# Altium footprint library con-molex-micro-fit-3_0.PCBLIB: 194 footprints (part 6 of 13)
Each footprint in its own frame and in the unit in brackets; x right, y up, seen from the top. Pads: shape width x height; smd on the part's side, far side on the other; paste and mask are expansions set on the pad; w line width, h text height; cw(c..) or ccw(c..) is an arc to the next point about the centre after c.
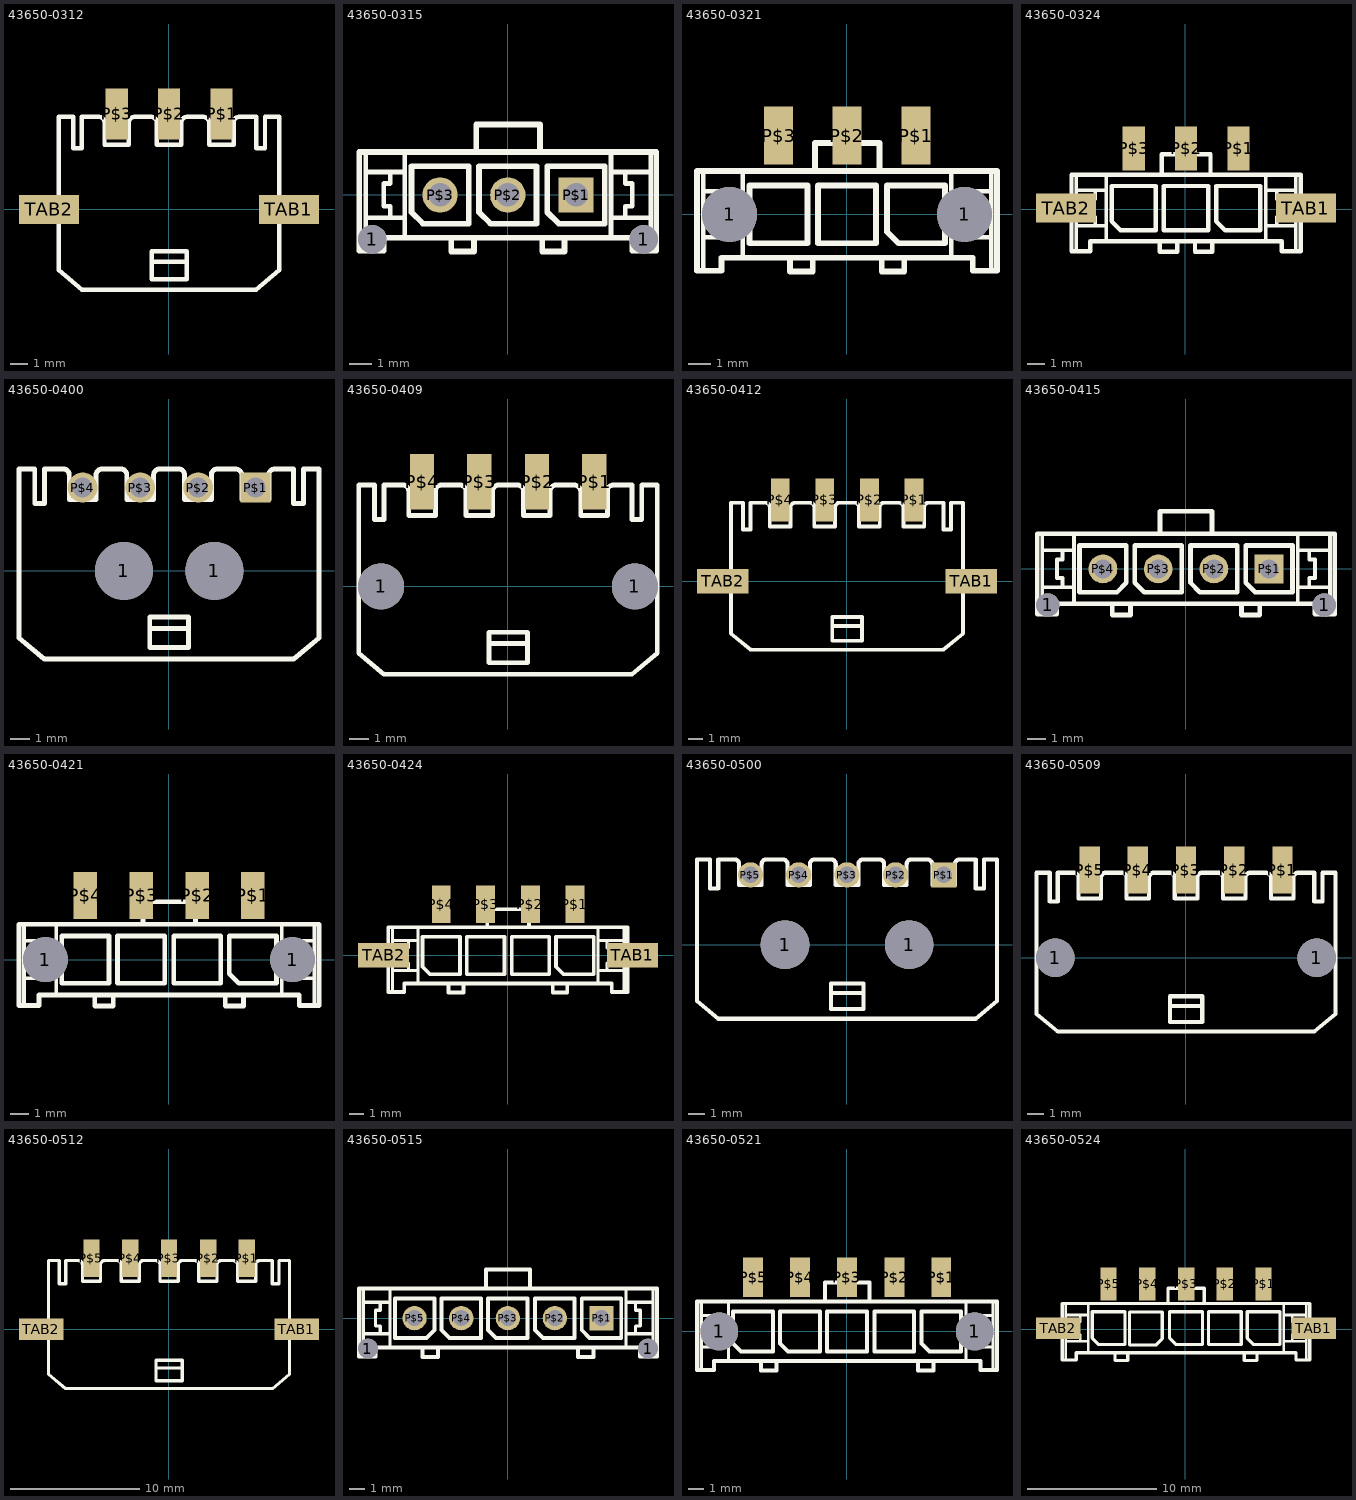
[diagram p5: the footprints below, top view; thin cyan lines are the x and y axes]

## 43650-0312 [mil]
pads (5):
  rect 50x115 smd: P$1(119,216) P$2(0,216) P$3(-118.11,216)
  rect 136x65 smd: TAB1(271,0) TAB2(-270.87,0)
Top Overlay:
  lines w10: -39.37,-118.11 40,-118.11 ; -39.37,-118.11 -39.37,-94.49 40,-94.49 40,-118.11 ; -39.37,-118.11 -39.37,-157.48 40,-157.48 40,-118.11 ; -248.82,-137.8 -196.85,-181.1 197,-181.1 249,-137.8 249,209 217,209 217,138 197,138 197,209 158,209 ccw(c158,197) 146,197 146,146 91,146 91,197 ccw(c77,195) 79,209 40,209 ccw(c40,197) 28,197 28,146 -27.56,146 -27.56,197 ccw(c-39.46,197.09) -39.37,209 -78.74,209 ccw(c-78.65,197.09) -90.55,197 -90.55,146 -145.67,146 -145.67,197 ccw(c-157.57,197.09) -157.48,209 -196.85,209 -196.85,138 -216.54,138 -216.54,209 -248.82,209 -248.82,-137.8

## 43650-0315 [mil]
pads (5):
  round 50 hole 50: 1(-236.22,-77.17) 1(237,-77.17)
  rect 61.5x61.5 hole 41: P$1(119,0)
  round 61.5 hole 41: P$2(0,0) P$3(-118.11,0)
Top Overlay:
  lines w8: -248.03,-97.24 -248.03,-39.37 ; -248.03,75 -248.03,40 ; -179.92,-74.8 -179.92,-39.37 ; -179.92,75 -179.92,40 ; 180,-74.8 180,-39.37 ; 180,75 180,40 ; 249,-97.24 249,-39.37 ; 249,75 249,40 ; -248.03,-39.37 -248.03,40 ; -248.03,-39.37 -204.72,-39.37 ; -248.03,40 -204.72,40 ; -204.72,-39.37 -179.92,-39.37 ; -204.72,-39.37 -204.72,-19.68 -216.54,-19.68 -216.54,20 -204.72,20 -204.72,40 ; -204.72,40 -179.92,40 ; -179.92,-39.37 -179.92,40 ; 180,-39.37 180,40 ; 180,-39.37 205,-39.37 ; 180,40 205,40 ; 205,-39.37 249,-39.37 ; 205,-39.37 205,-19.68 217,-19.68 217,20 205,20 205,40 ; 205,40 249,40 ; 249,-39.37 249,40
  lines w10: -98.43,-74.8 -59.06,-74.8 ; -98.43,-74.8 -179.92,-74.8 -216.54,-74.8 -216.54,-97.24 -248.03,-97.24 -258.86,-97.24 -258.86,75 -248.03,75 -179.92,75 -55.12,75 ; -98.43,-74.8 -98.43,-98.43 -59.06,-98.43 -59.06,-74.8 ; -59.06,-74.8 60,-74.8 ; -55.12,75 56,75 ; -55.12,75 -55.12,123 56,123 56,75 ; 56,75 180,75 249,75 259,75 259,-97.24 249,-97.24 217,-97.24 217,-74.8 180,-74.8 99,-74.8 ; 60,-74.8 99,-74.8 ; 60,-74.8 60,-98.43 99,-98.43 99,-74.8 ; -168.11,-30 -168.11,50 -68.11,50 -68.11,-50 -148.11,-50 -168.11,-30 ; -50,-30 -50,50 50,50 50,-50 -30,-50 -50,-30 ; 69,-30 69,50 169,50 169,-50 89,-50 69,-30

## 43650-0321 [mil]
pads (5):
  round 95 hole 95: 1(-202.76,0) 1(203,0)
  rect 50x100 smd: P$1(119,136) P$2(0,136) P$3(-118.11,136)
Top Overlay:
  lines w8: -248.03,-97.24 -248.03,-39.37 ; -248.03,75 -248.03,40 ; -179.92,-74.8 -179.92,-39.37 ; -179.92,75 -179.92,40 ; 180,-74.8 180,-39.37 ; 180,75 180,40 ; 249,-97.24 249,-39.37 ; 249,75 249,40 ; -248.03,-39.37 -248.03,40 ; -248.03,-39.37 -204.72,-39.37 ; -248.03,40 -204.72,40 ; -204.72,-39.37 -179.92,-39.37 ; -204.72,-39.37 -204.72,-19.68 -216.54,-19.68 -216.54,20 -204.72,20 -204.72,40 ; -204.72,40 -179.92,40 ; -179.92,-39.37 -179.92,40 ; 180,-39.37 180,40 ; 180,-39.37 205,-39.37 ; 180,40 205,40 ; 205,-39.37 249,-39.37 ; 205,-39.37 205,-19.68 217,-19.68 217,20 205,20 205,40 ; 205,40 249,40 ; 249,-39.37 249,40
  lines w10: -98.43,-74.8 -59.06,-74.8 ; -98.43,-74.8 -179.92,-74.8 -216.54,-74.8 -216.54,-97.24 -248.03,-97.24 -258.86,-97.24 -258.86,75 -248.03,75 -179.92,75 -55.12,75 ; -98.43,-74.8 -98.43,-98.43 -59.06,-98.43 -59.06,-74.8 ; -59.06,-74.8 60,-74.8 ; -55.12,75 56,75 ; -55.12,75 -55.12,123 56,123 56,75 ; 56,75 180,75 249,75 259,75 259,-97.24 249,-97.24 217,-97.24 217,-74.8 180,-74.8 99,-74.8 ; 60,-74.8 99,-74.8 ; 60,-74.8 60,-98.43 99,-98.43 99,-74.8 ; -168.11,-50 -68.11,-50 -68.11,50 -168.11,50 -168.11,-50 ; -50,-50 50,-50 50,50 -50,50 -50,-50 ; 69,-30 69,50 169,50 169,-50 89,-50 69,-30

## 43650-0324 [mil]
pads (5):
  rect 50x100 smd: P$1(120,138) P$2(2,138) P$3(-116.68,138)
  rect 136x65 smd: TAB1(273,3) TAB2(-269.83,3)
Top Overlay:
  lines w8: -246.6,-94.37 -246.6,-36.5 ; -246.6,78 -246.6,43 ; -178.49,-71.93 -178.49,-36.5 ; -178.49,78 -178.49,43 ; 182,-71.93 182,-36.5 ; 182,78 182,43 ; 250,-94.37 250,-36.5 ; 250,78 250,43 ; -246.6,-36.5 -246.6,43 ; -246.6,-36.5 -203.29,-36.5 ; -246.6,43 -203.29,43 ; -203.29,-36.5 -178.49,-36.5 ; -203.29,-36.5 -203.29,-16.81 -215.1,-16.81 -215.1,23 -203.29,23 -203.29,43 ; -203.29,43 -178.49,43 ; -178.49,-36.5 -178.49,43 ; 182,-36.5 182,43 ; 182,-36.5 207,-36.5 ; 182,43 207,43 ; 207,-36.5 250,-36.5 ; 207,-36.5 207,-16.81 218,-16.81 218,23 207,23 207,43 ; 207,43 250,43 ; 250,-36.5 250,43
  lines w10: -57.62,-71.93 -18.25,-71.93 ; -57.62,-71.93 -178.49,-71.93 -215.1,-71.93 -215.1,-94.37 -246.6,-94.37 -257.43,-94.37 -257.43,78 -246.6,78 -178.49,78 -53.69,78 ; -57.62,-71.93 -57.62,-95.55 -18.25,-95.55 -18.25,-71.93 ; -53.69,78 57,78 ; -53.69,78 -53.69,125 57,125 57,78 ; -18.25,-71.93 22,-71.93 ; 22,-71.93 61,-71.93 ; 22,-71.93 22,-95.55 61,-95.55 61,-71.93 ; 57,78 182,78 250,78 261,78 261,-94.37 250,-94.37 218,-94.37 218,-71.93 182,-71.93 61,-71.93 ; -166.68,-27.13 -166.68,53 -66.68,53 -66.68,-47.13 -146.68,-47.13 -166.68,-27.13 ; -48.57,-47.13 52,-47.13 52,53 -48.57,53 -48.57,-47.13 ; 70,-27.13 70,53 170,53 170,-47.13 90,-47.13 70,-27.13

## 43650-0400 [mil]
pads (6):
  round 119 hole 119: 1(-92.52,0) 1(93,0)
  rect 61.5x61.5 hole 41: P$1(178,171)
  round 61.5 hole 41: P$2(60,171) P$3(-59.06,171) P$4(-177.17,171)
Top Overlay:
  lines w10: -39.37,-118.11 -39.37,-157.48 40,-157.48 40,-118.11 ; -39.37,-118.11 -39.37,-94.49 40,-94.49 40,-118.11 ; -39.37,-118.11 40,-118.11 ; -307.87,-137.8 -307.87,209 -275.59,209 -275.59,138 -255.91,138 -255.91,209 -216.54,209 cw(c-216.63,197.09) -204.72,197 -204.72,146 -149.61,146 -149.61,197 cw(c-137.7,197.09) -137.8,209 -98.43,209 cw(c-98.52,197.09) -86.61,197 -86.61,146 -31.5,146 -31.5,197 cw(c-19.59,197.09) -19.69,209 20,209 cw(c20,197) 32,197 32,146 87,146 87,197 cw(c99,197) 99,209 138,209 cw(c136,195) 150,197 150,146 205,146 205,197 cw(c217,197) 217,209 256,209 256,138 276,138 276,209 308,209 308,-137.8 256,-181.1 -255.91,-181.1 -307.87,-137.8

## 43650-0409 [mil]
pads (6):
  round 95 hole 95: 1(-261.81,0) 1(262,0)
  rect 50x115 smd: P$1(178,216) P$2(60,216) P$3(-59.06,216) P$4(-177.17,216)
Top Overlay:
  lines w10: -39.37,-118.11 -39.37,-157.48 40,-157.48 40,-118.11 ; -39.37,-118.11 -39.37,-94.49 40,-94.49 40,-118.11 ; -39.37,-118.11 40,-118.11 ; -307.87,-137.8 -307.87,209 -275.59,209 -275.59,138 -255.91,138 -255.91,209 -216.54,209 cw(c-216.63,197.09) -204.72,197 -204.72,146 -149.61,146 -149.61,197 cw(c-137.7,197.09) -137.8,209 -98.43,209 cw(c-98.52,197.09) -86.61,197 -86.61,146 -31.5,146 -31.5,197 cw(c-19.59,197.09) -19.69,209 20,209 cw(c20,197) 32,197 32,146 87,146 87,197 cw(c99,197) 99,209 138,209 cw(c136,195) 150,197 150,146 205,146 205,197 cw(c217,197) 217,209 256,209 256,138 276,138 276,209 308,209 308,-137.8 256,-181.1 -255.91,-181.1 -307.87,-137.8

## 43650-0412 [mil]
pads (6):
  rect 50x115 smd: P$1(178,216) P$2(60,216) P$3(-59.06,216) P$4(-177.17,216)
  rect 136x65 smd: TAB1(330,0) TAB2(-329.92,0)
Top Overlay:
  lines w10: -39.37,-118.11 -39.37,-157.48 40,-157.48 40,-118.11 ; -39.37,-118.11 -39.37,-94.49 40,-94.49 40,-118.11 ; -39.37,-118.11 40,-118.11 ; -307.87,-137.8 -307.87,209 -275.59,209 -275.59,138 -255.91,138 -255.91,209 -216.54,209 cw(c-216.63,197.09) -204.72,197 -204.72,146 -149.61,146 -149.61,197 cw(c-137.7,197.09) -137.8,209 -98.43,209 cw(c-98.52,197.09) -86.61,197 -86.61,146 -31.5,146 -31.5,197 cw(c-19.59,197.09) -19.69,209 20,209 cw(c20,197) 32,197 32,146 87,146 87,197 cw(c99,197) 99,209 138,209 cw(c136,195) 150,197 150,146 205,146 205,197 cw(c217,197) 217,209 256,209 256,138 276,138 276,209 308,209 308,-137.8 256,-181.1 -255.91,-181.1 -307.87,-137.8

## 43650-0415 [mil]
pads (6):
  round 50 hole 50: 1(-295.28,-77.17) 1(296,-77.17)
  rect 61.5x61.5 hole 41: P$1(178,0)
  round 61.5 hole 41: P$2(60,0) P$3(-59.06,0) P$4(-177.17,0)
Top Overlay:
  lines w8: -307.09,-97.24 -307.09,-39.37 ; -307.09,75 -307.09,40 ; -238.98,-74.8 -238.98,-39.37 ; -238.98,75 -238.98,40 ; 239,-74.8 239,-39.37 ; 239,75 239,40 ; 308,-97.24 308,-39.37 ; 308,75 308,40 ; -307.09,-39.37 -307.09,40 ; -307.09,-39.37 -263.78,-39.37 ; -307.09,40 -263.78,40 ; -263.78,-39.37 -238.98,-39.37 ; -263.78,-39.37 -263.78,-19.68 -275.59,-19.68 -275.59,20 -263.78,20 -263.78,40 ; -263.78,40 -238.98,40 ; -238.98,-39.37 -238.98,40 ; 239,-39.37 239,40 ; 239,-39.37 264,-39.37 ; 239,40 264,40 ; 264,-39.37 308,-39.37 ; 264,-39.37 264,-19.68 276,-19.68 276,20 264,20 264,40 ; 264,40 308,40 ; 308,-39.37 308,40
  lines w10: -157.48,-74.8 -118.11,-74.8 ; -157.48,-74.8 -238.98,-74.8 -275.59,-74.8 -275.59,-97.24 -307.09,-97.24 -317.91,-97.24 -317.91,75 -307.09,75 -238.98,75 -55.12,75 ; -157.48,-74.8 -157.48,-98.43 -118.11,-98.43 -118.11,-74.8 ; -118.11,-74.8 119,-74.8 ; -55.12,75 56,75 ; -55.12,75 -55.12,123 56,123 56,75 ; 56,75 239,75 308,75 318,75 318,-97.24 308,-97.24 276,-97.24 276,-74.8 239,-74.8 158,-74.8 ; 119,-74.8 158,-74.8 ; 119,-74.8 119,-98.43 158,-98.43 158,-74.8 ; -227.17,-50 -227.17,50 -127.17,50 -127.17,-30 -147.17,-50 -227.17,-50 ; -109.06,-30 -109.06,50 -9.06,50 -9.06,-50 -89.06,-50 -109.06,-30 ; 10,-30 10,50 110,50 110,-50 30,-50 10,-30 ; 128,-30 128,50 228,50 228,-50 148,-50 128,-30

## 43650-0421 [mil]
pads (6):
  round 95 hole 95: 1(-261.81,0) 1(262,0)
  rect 50x100 smd: P$1(178,136) P$2(60,136) P$3(-59.06,136) P$4(-177.17,136)
Top Overlay:
  lines w8: -307.09,-97.24 -307.09,-39.37 ; -307.09,75 -307.09,40 ; -238.98,-74.8 -238.98,-39.37 ; -238.98,75 -238.98,40 ; 239,-74.8 239,-39.37 ; 239,75 239,40 ; 308,-97.24 308,-39.37 ; 308,75 308,40 ; -307.09,-39.37 -307.09,40 ; -307.09,-39.37 -263.78,-39.37 ; -307.09,40 -263.78,40 ; -263.78,-39.37 -238.98,-39.37 ; -263.78,-39.37 -263.78,-19.68 -275.59,-19.68 -275.59,20 -263.78,20 -263.78,40 ; -263.78,40 -238.98,40 ; -238.98,-39.37 -238.98,40 ; 239,-39.37 239,40 ; 239,-39.37 264,-39.37 ; 239,40 264,40 ; 264,-39.37 308,-39.37 ; 264,-39.37 264,-19.68 276,-19.68 276,20 264,20 264,40 ; 264,40 308,40 ; 308,-39.37 308,40
  lines w10: -157.48,-74.8 -118.11,-74.8 ; -157.48,-74.8 -238.98,-74.8 -275.59,-74.8 -275.59,-97.24 -307.09,-97.24 -317.91,-97.24 -317.91,75 -307.09,75 -238.98,75 -55.12,75 ; -157.48,-74.8 -157.48,-98.43 -118.11,-98.43 -118.11,-74.8 ; -118.11,-74.8 119,-74.8 ; -55.12,75 56,75 ; -55.12,75 -55.12,123 56,123 56,75 ; 56,75 239,75 308,75 318,75 318,-97.24 308,-97.24 276,-97.24 276,-74.8 239,-74.8 158,-74.8 ; 119,-74.8 158,-74.8 ; 119,-74.8 119,-98.43 158,-98.43 158,-74.8 ; -227.17,-50 -127.17,-50 -127.17,50 -227.17,50 -227.17,-50 ; -109.06,-50 -9.06,-50 -9.06,50 -109.06,50 -109.06,-50 ; 10,-50 110,-50 110,50 10,50 10,-50 ; 128,-30 128,50 228,50 228,-50 148,-50 128,-30

## 43650-0424 [mil]
pads (6):
  rect 50x100 smd: P$1(178,136) P$2(60,136) P$3(-59.06,136) P$4(-177.17,136)
  rect 136x65 smd: TAB1(331,0) TAB2(-330.31,0)
Top Overlay:
  lines w8: -307.09,-97.24 -307.09,-39.37 ; -307.09,75 -307.09,40 ; -238.98,-74.8 -238.98,-39.37 ; -238.98,75 -238.98,40 ; 239,-74.8 239,-39.37 ; 239,75 239,40 ; 308,-97.24 308,-39.37 ; 308,75 308,40 ; -307.09,-39.37 -307.09,40 ; -307.09,-39.37 -263.78,-39.37 ; -307.09,40 -263.78,40 ; -263.78,-39.37 -238.98,-39.37 ; -263.78,-39.37 -263.78,-19.68 -275.59,-19.68 -275.59,20 -263.78,20 -263.78,40 ; -263.78,40 -238.98,40 ; -238.98,-39.37 -238.98,40 ; 239,-39.37 239,40 ; 239,-39.37 264,-39.37 ; 239,40 264,40 ; 264,-39.37 308,-39.37 ; 264,-39.37 264,-19.68 276,-19.68 276,20 264,20 264,40 ; 264,40 308,40 ; 308,-39.37 308,40
  lines w10: -157.48,-74.8 -118.11,-74.8 ; -157.48,-74.8 -238.98,-74.8 -275.59,-74.8 -275.59,-97.24 -307.09,-97.24 -317.91,-97.24 -317.91,75 -307.09,75 -238.98,75 -55.12,75 ; -157.48,-74.8 -157.48,-98.43 -118.11,-98.43 -118.11,-74.8 ; -118.11,-74.8 119,-74.8 ; -55.12,75 56,75 ; -55.12,75 -55.12,123 56,123 56,75 ; 56,75 239,75 308,75 318,75 318,-97.24 308,-97.24 276,-97.24 276,-74.8 239,-74.8 158,-74.8 ; 119,-74.8 158,-74.8 ; 119,-74.8 119,-98.43 158,-98.43 158,-74.8 ; -227.17,-30 -227.17,50 -127.17,50 -127.17,-50 -207.17,-50 -227.17,-30 ; -109.06,-50 -9.06,-50 -9.06,50 -109.06,50 -109.06,-50 ; 10,-50 110,-50 110,50 10,50 10,-50 ; 128,-30 128,50 228,50 228,-50 148,-50 128,-30

## 43650-0500 [mil]
pads (7):
  round 119 hole 119: 1(-151.57,0) 1(152,0)
  rect 61.5x61.5 hole 41: P$1(237,171)
  round 61.5 hole 41: P$2(119,171) P$3(0,171) P$4(-118.11,171) P$5(-236.22,171)
Top Overlay:
  lines w10: -39.37,-118.11 -39.37,-157.48 40,-157.48 40,-118.11 ; -39.37,-118.11 -39.37,-94.49 40,-94.49 40,-118.11 ; -39.37,-118.11 40,-118.11 ; -366.93,-137.8 -366.93,209 -334.65,209 -334.65,138 -314.96,138 -314.96,209 -275.59,209 cw(c-275.69,197.09) -263.78,197 -263.78,146 -208.66,146 -208.66,197 cw(c-196.76,197.09) -196.85,209 -157.48,209 cw(c-157.57,197.09) -145.67,197 -145.67,146 -90.55,146 -90.55,197 cw(c-78.65,197.09) -78.74,209 -39.37,209 cw(c-39.46,197.09) -27.56,197 -27.56,146 28,146 28,197 cw(c40,197) 40,209 79,209 cw(c79,197) 91,197 91,146 146,146 146,197 cw(c158,197) 158,209 197,209 cw(c195,195) 209,197 209,146 264,146 264,197 cw(c276,197) 276,209 315,209 315,138 335,138 335,209 367,209 367,-137.8 315,-181.1 -314.96,-181.1 -366.93,-137.8

## 43650-0509 [mil]
pads (7):
  round 95 hole 95: 1(-320.87,0) 1(321,0)
  rect 50x115 smd: P$1(237,216) P$2(119,216) P$3(0,216) P$4(-118.11,216) P$5(-236.22,216)
Top Overlay:
  lines w10: -39.37,-118.11 -39.37,-157.48 40,-157.48 40,-118.11 ; -39.37,-118.11 -39.37,-94.49 40,-94.49 40,-118.11 ; -39.37,-118.11 40,-118.11 ; -366.93,-137.8 -366.93,209 -334.65,209 -334.65,138 -314.96,138 -314.96,209 -275.59,209 cw(c-275.69,197.09) -263.78,197 -263.78,146 -208.66,146 -208.66,197 cw(c-196.76,197.09) -196.85,209 -157.48,209 cw(c-157.57,197.09) -145.67,197 -145.67,146 -90.55,146 -90.55,197 cw(c-78.65,197.09) -78.74,209 -39.37,209 cw(c-39.46,197.09) -27.56,197 -27.56,146 28,146 28,197 cw(c40,197) 40,209 79,209 cw(c79,197) 91,197 91,146 146,146 146,197 cw(c158,197) 158,209 197,209 cw(c195,195) 209,197 209,146 264,146 264,197 cw(c276,197) 276,209 315,209 315,138 335,138 335,209 367,209 367,-137.8 315,-181.1 -314.96,-181.1 -366.93,-137.8

## 43650-0512 [mil]
pads (7):
  rect 50x115 smd: P$1(237,216) P$2(119,216) P$3(0,216) P$4(-118.11,216) P$5(-236.22,216)
  rect 136x65 smd: TAB1(389,0) TAB2(-388.98,0)
Top Overlay:
  lines w10: -39.37,-118.11 -39.37,-157.48 40,-157.48 40,-118.11 ; -39.37,-118.11 -39.37,-94.49 40,-94.49 40,-118.11 ; -39.37,-118.11 40,-118.11 ; -366.93,-137.8 -366.93,209 -334.65,209 -334.65,138 -314.96,138 -314.96,209 -275.59,209 cw(c-275.69,197.09) -263.78,197 -263.78,146 -208.66,146 -208.66,197 cw(c-196.76,197.09) -196.85,209 -157.48,209 cw(c-157.57,197.09) -145.67,197 -145.67,146 -90.55,146 -90.55,197 cw(c-78.65,197.09) -78.74,209 -39.37,209 cw(c-39.46,197.09) -27.56,197 -27.56,146 28,146 28,197 cw(c40,197) 40,209 79,209 cw(c79,197) 91,197 91,146 146,146 146,197 cw(c158,197) 158,209 197,209 cw(c195,195) 209,197 209,146 264,146 264,197 cw(c276,197) 276,209 315,209 315,138 335,138 335,209 367,209 367,-137.8 315,-181.1 -314.96,-181.1 -366.93,-137.8

## 43650-0515 [mil]
pads (7):
  round 50 hole 50: 1(-354.33,-77.17) 1(355,-77.17)
  rect 61.5x61.5 hole 41: P$1(237,0)
  round 61.5 hole 41: P$2(119,0) P$3(0,0) P$4(-118.11,0) P$5(-236.22,0)
Top Overlay:
  lines w8: -366.14,-97.24 -366.14,-39.37 ; -366.14,75 -366.14,40 ; -298.03,-74.8 -298.03,-39.37 ; -298.03,75 -298.03,40 ; 299,-74.8 299,-39.37 ; 299,75 299,40 ; 367,-97.24 367,-39.37 ; 367,75 367,40 ; -366.14,-39.37 -366.14,40 ; -366.14,-39.37 -322.83,-39.37 ; -366.14,40 -322.83,40 ; -322.83,-39.37 -298.03,-39.37 ; -322.83,-39.37 -322.83,-19.68 -334.65,-19.68 -334.65,20 -322.83,20 -322.83,40 ; -322.83,40 -298.03,40 ; -298.03,-39.37 -298.03,40 ; 299,-39.37 299,40 ; 299,-39.37 323,-39.37 ; 299,40 323,40 ; 323,-39.37 367,-39.37 ; 323,-39.37 323,-19.68 335,-19.68 335,20 323,20 323,40 ; 323,40 367,40 ; 367,-39.37 367,40
  lines w10: -216.54,-74.8 -177.17,-74.8 ; -216.54,-74.8 -298.03,-74.8 -334.65,-74.8 -334.65,-97.24 -366.14,-97.24 -376.97,-97.24 -376.97,75 -366.14,75 -298.03,75 -55.12,75 ; -216.54,-74.8 -216.54,-98.43 -177.17,-98.43 -177.17,-74.8 ; -177.17,-74.8 178,-74.8 ; -55.12,75 56,75 ; -55.12,75 -55.12,123 56,123 56,75 ; 56,75 299,75 367,75 377,75 377,-97.24 367,-97.24 335,-97.24 335,-74.8 299,-74.8 217,-74.8 ; 178,-74.8 217,-74.8 ; 178,-74.8 178,-98.43 217,-98.43 217,-74.8 ; -286.22,-50 -286.22,50 -186.22,50 -186.22,-30 -206.22,-50 -286.22,-50 ; -168.11,-30 -168.11,50 -68.11,50 -68.11,-50 -148.11,-50 -168.11,-30 ; -50,-30 -50,50 50,50 50,-50 -30,-50 -50,-30 ; 69,-30 69,50 169,50 169,-50 89,-50 69,-30 ; 187,-30 187,50 287,50 287,-50 207,-50 187,-30

## 43650-0521 [mil]
pads (7):
  round 95 hole 95: 1(-320.87,0) 1(321,0)
  rect 50x100 smd: P$1(237,136) P$2(119,136) P$3(0,136) P$4(-118.11,136) P$5(-236.22,136)
Top Overlay:
  lines w8: -366.14,-97.24 -366.14,-39.37 ; -366.14,75 -366.14,40 ; -298.03,-74.8 -298.03,-39.37 ; -298.03,75 -298.03,40 ; 299,-74.8 299,-39.37 ; 299,75 299,40 ; 367,-97.24 367,-39.37 ; 367,75 367,40 ; -366.14,-39.37 -366.14,40 ; -366.14,-39.37 -322.83,-39.37 ; -366.14,40 -322.83,40 ; -322.83,-39.37 -298.03,-39.37 ; -322.83,-39.37 -322.83,-19.68 -334.65,-19.68 -334.65,20 -322.83,20 -322.83,40 ; -322.83,40 -298.03,40 ; -298.03,-39.37 -298.03,40 ; 299,-39.37 299,40 ; 299,-39.37 323,-39.37 ; 299,40 323,40 ; 323,-39.37 367,-39.37 ; 323,-39.37 323,-19.68 335,-19.68 335,20 323,20 323,40 ; 323,40 367,40 ; 367,-39.37 367,40
  lines w10: -216.54,-74.8 -177.17,-74.8 ; -216.54,-74.8 -298.03,-74.8 -334.65,-74.8 -334.65,-97.24 -366.14,-97.24 -376.97,-97.24 -376.97,75 -366.14,75 -298.03,75 -55.12,75 ; -216.54,-74.8 -216.54,-98.43 -177.17,-98.43 -177.17,-74.8 ; -177.17,-74.8 178,-74.8 ; -55.12,75 56,75 ; -55.12,75 -55.12,123 56,123 56,75 ; 56,75 299,75 367,75 377,75 377,-97.24 367,-97.24 335,-97.24 335,-74.8 299,-74.8 217,-74.8 ; 178,-74.8 217,-74.8 ; 178,-74.8 178,-98.43 217,-98.43 217,-74.8 ; -286.22,-30 -286.22,50 -186.22,50 -186.22,-50 -266.22,-50 -286.22,-30 ; -168.11,-30 -168.11,50 -68.11,50 -68.11,-50 -148.11,-50 -168.11,-30 ; -50,-50 50,-50 50,50 -50,50 -50,-50 ; 69,-50 169,-50 169,50 69,50 69,-50 ; 187,-30 187,50 287,50 287,-50 207,-50 187,-30

## 43650-0524 [mil]
pads (7):
  rect 50x100 smd: P$1(238,138) P$2(120,138) P$3(2,138) P$4(-116.68,138) P$5(-234.79,138)
  rect 136x65 smd: TAB1(391,3) TAB2(-387.94,3)
Top Overlay:
  lines w8: -364.71,-94.37 -364.71,-36.5 ; -364.71,78 -364.71,43 ; -296.6,-71.93 -296.6,-36.5 ; -296.6,78 -296.6,43 ; 300,-71.93 300,-36.5 ; 300,78 300,43 ; 368,-94.37 368,-36.5 ; 368,78 368,43 ; -364.71,-36.5 -364.71,43 ; -364.71,-36.5 -321.4,-36.5 ; -364.71,43 -321.4,43 ; -321.4,-36.5 -296.6,-36.5 ; -321.4,-36.5 -321.4,-16.81 -333.21,-16.81 -333.21,23 -321.4,23 -321.4,43 ; -321.4,43 -296.6,43 ; -296.6,-36.5 -296.6,43 ; 300,-36.5 300,43 ; 300,-36.5 325,-36.5 ; 300,43 325,43 ; 325,-36.5 368,-36.5 ; 325,-36.5 325,-16.81 337,-16.81 337,23 325,23 325,43 ; 325,43 368,43 ; 368,-36.5 368,43
  lines w10: -215.1,-71.93 -175.73,-71.93 ; -215.1,-71.93 -296.6,-71.93 -333.21,-71.93 -333.21,-94.37 -364.71,-94.37 -375.54,-94.37 -375.54,78 -364.71,78 -296.6,78 -53.69,78 ; -215.1,-71.93 -215.1,-95.55 -175.73,-95.55 -175.73,-71.93 ; -175.73,-71.93 179,-71.93 ; -53.69,78 57,78 ; -53.69,78 -53.69,125 57,125 57,78 ; 57,78 300,78 368,78 379,78 379,-94.37 368,-94.37 337,-94.37 337,-71.93 300,-71.93 218,-71.93 ; 179,-71.93 218,-71.93 ; 179,-71.93 179,-95.55 218,-95.55 218,-71.93 ; -284.79,-27.13 -284.79,53 -184.79,53 -184.79,-47.13 -264.79,-47.13 -284.79,-27.13 ; -170.98,-48.57 -170.98,52 -70.98,52 -70.98,-28.57 -90.98,-48.57 -170.98,-48.57 ; -48.57,-27.13 -48.57,53 52,53 52,-47.13 -28.57,-47.13 -48.57,-27.13 ; 70,-47.13 170,-47.13 170,53 70,53 70,-47.13 ; 188,-27.13 188,53 288,53 288,-47.13 208,-47.13 188,-27.13